# EAGLE library part BSS138_LVLSHIFT (library Adafruit_Arduino)
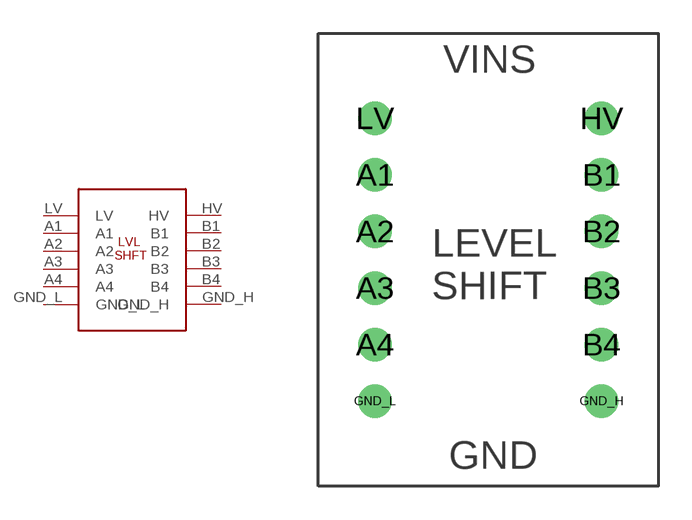
[diagram p6: symbol with the pads of BSS138_LEVELSHIFT; footprint BSS138_LEVELSHIFT]

Designator prefix -

## BSS138_LVLSHIFT  [BSS138_LEVELSHIFT]
A1  A1
A2  A2
A3  A3
A4  A4
B1  B1
B2  B2
B3  B3
B4  B4
GND_H  GND_H
GND_L  GND_L
HV  HV
LV  LV

## Footprint BSS138_LEVELSHIFT (pad centres in mm)
drill 1: A1 -5.08,3.81; A2 -5.08,1.27; A3 -5.08,-1.27; A4 -5.08,-3.81; B1 5.08,3.81; B2 5.08,1.27; B3 5.08,-1.27; B4 5.08,-3.81; GND_H 5.08,-6.35; GND_L -5.08,-6.35; HV 5.08,6.35; LV -5.08,6.35